# Altium footprint library SWARMUS_LIB.PcbLib: 30 footprints (part 1 of 2)
Each footprint in its own frame and in the unit in brackets; x right, y up, seen from the top. Pads: shape width x height; smd on the part's side, far side on the other; paste and mask are expansions set on the pad; w line width, h text height; cw(c..) or ccw(c..) is an arc to the next point about the centre after c.
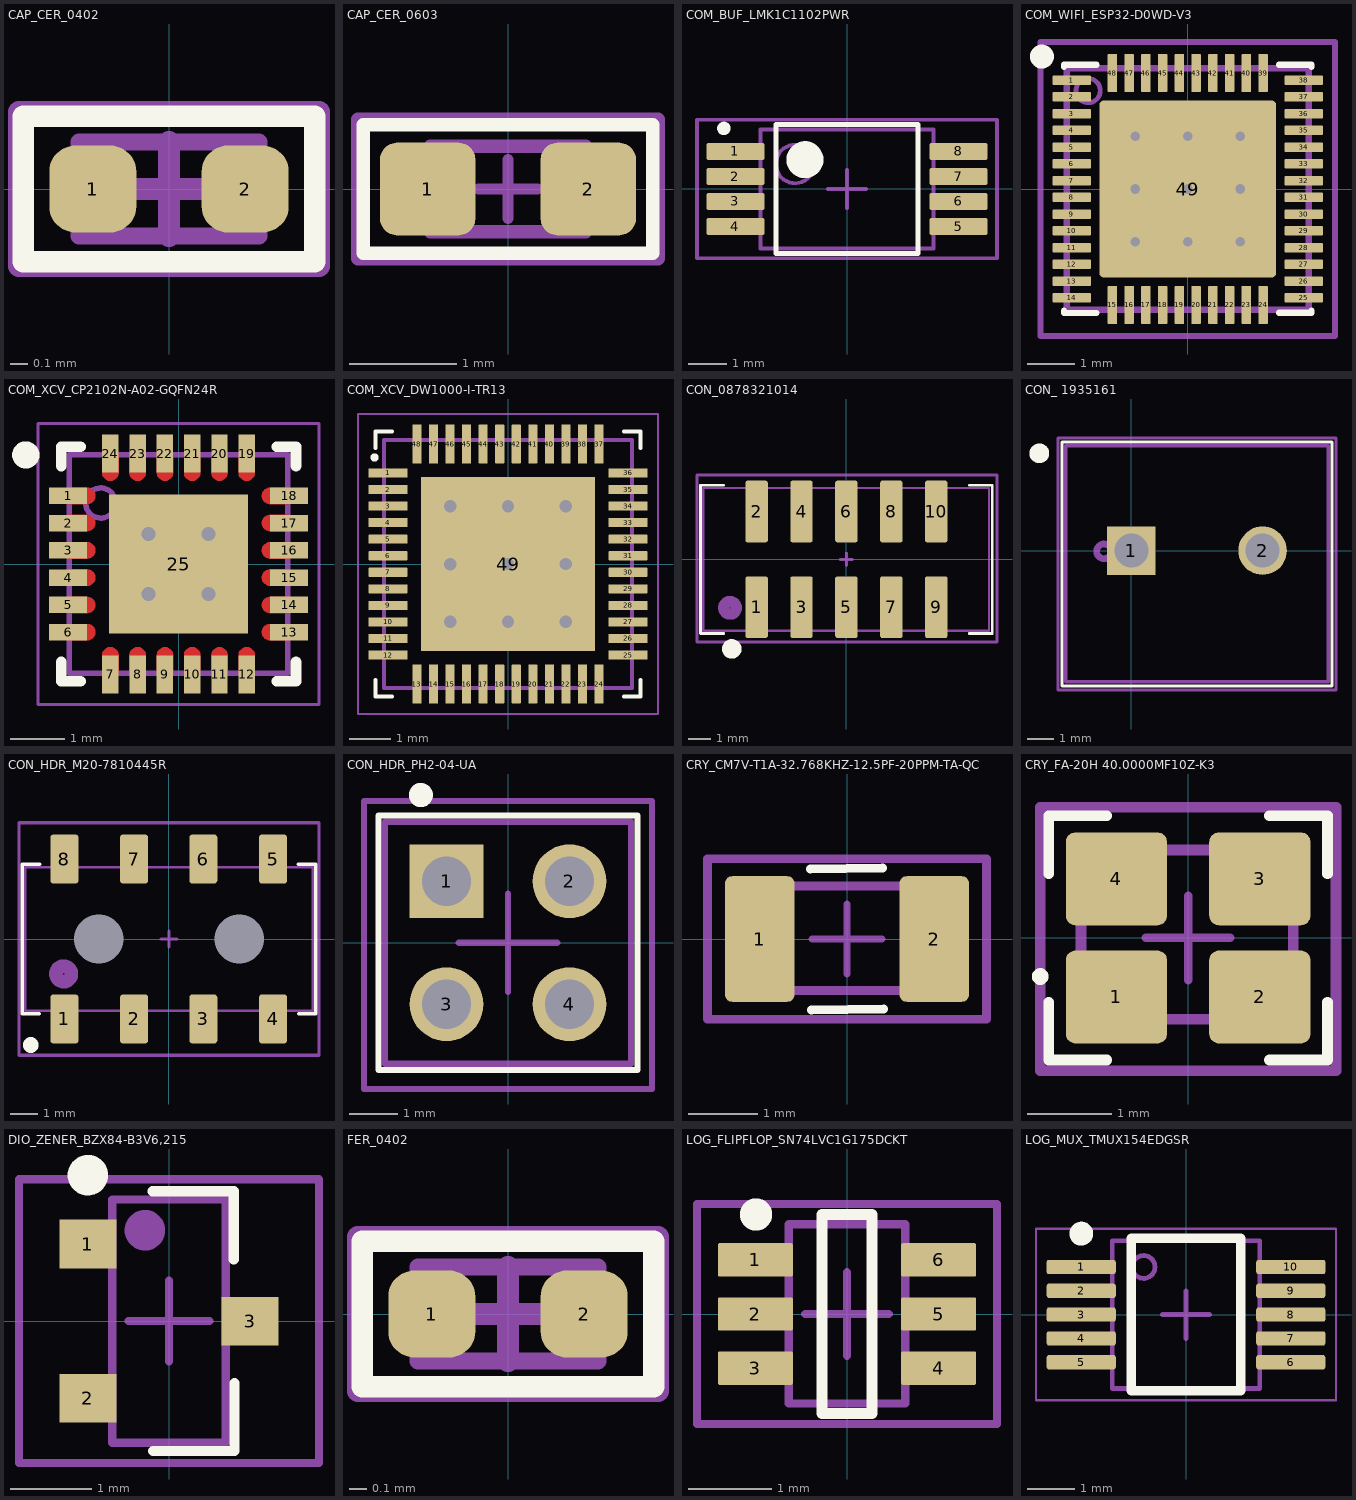
[diagram p0: the footprints below, top view; thin cyan lines are the x and y axes]

## CAP_CER_0402 [mil] "Ceramic Capacitor - 0402"
height 23.62
pads (2):
  rrect60% 20x20 smd paste+0 mask+1.97: 1(-17.5,0) 2(17.5,0)
Top Overlay:
  lines w5: -33.46,-16.73 33.46,-16.73 33.46,16.73 -33.46,16.73 -33.46,-16.73
Top Assembly Drawing:
  lines w3.94: -20.67,-10.83 20.67,-10.83 20.67,10.83 -20.67,10.83 -20.67,-10.83
Top Courtyard:
  lines w5: -10.83,0 10.83,0 ; 0,-10.83 0,10.83 ; -34.45,-17.72 -34.45,17.72 34.45,17.72 34.45,-17.72 -34.45,-17.72
3D body "Cap0402.step": height 19.68, standoff 0, extent -19.37,-9.69 20,10

## CAP_CER_0603 [mil] "Ceramic Capacitor - 0603"
height 31.5
pads (2):
  rrect35% 35x34 smd paste+0 mask+1.97: 1(-29.5,0) 2(29.5,0)
Top Overlay:
  lines w5: -53.15,-23.62 -53.15,23.62 53.15,23.62 53.15,-23.62 -53.15,-23.62
Top Assembly Drawing:
  lines w5: -28.54,-15.75 -28.54,15.75 28.54,15.75 28.54,-15.75 -28.54,-15.75
Top Courtyard:
  lines w3.94: -10.83,0 10.83,0 ; 0,-10.83 0,10.83
  lines w5: -55.12,-25.59 -55.12,25.59 55.12,25.59 55.12,-25.59 -55.12,-25.59
3D body "Cap0603.step": height 35.43, standoff 0, extent -31.5,-15.75 31.5,15.75

## COM_BUF_LMK1C1102PWR [mm] "TSOP, 8-Leads, Body 3,00x4,40mm, Pitch 0,65mm, IPC Medium Density"
height 1.2
pads (8):
  rrect20% 1.5x0.45 smd paste-0.05 mask+0.05: 1(-2.9,0.975) 2(-2.9,0.325) 3(-2.9,-0.325) 4(-2.9,-0.975) 5(2.9,-0.975) 6(2.9,-0.325) 7(2.9,0.325) 8(2.9,0.975)
Top Overlay:
  circle w0.6: c-1.092,0.762 r0.18
  circle w0.25: c-3.2,1.575 r0.05
  lines w0.127: -1.85,-1.676 1.85,-1.676 1.85,1.676 -1.85,1.676 -1.85,-1.676
Top Assembly Drawing:
  circle w0.1: c-1.35,0.65 r0.5
  lines w0.1: -2.25,-1.55 2.25,-1.55 2.25,1.55 -2.25,1.55 -2.25,-1.55
Top Courtyard:
  lines w0.1: -0.5,0 0.5,0 ; 0,-0.5 0,0.5 ; -3.9,-1.8 -3.9,1.8 3.9,1.8 3.9,-1.8 -3.9,-1.8
3D body "COM_BUF_LMK1C1102PWR_1.step": height 1.2, standoff 0, extent -3.2,-1.55 3.2,1.55

## COM_WIFI_ESP32-D0WD-V3 [mm]
pads (49):
  rrect20% 0.8x0.2 smd paste-0.025 mask+0.05: 1(-2.425,2.275) 2(-2.425,1.925) 3(-2.425,1.575) 4(-2.425,1.225) 5(-2.425,0.875) 6(-2.425,0.525) 7(-2.425,0.175) 8(-2.425,-0.175) 9(-2.425,-0.525) 10(-2.425,-0.875) 11(-2.425,-1.225) 12(-2.425,-1.575) 13(-2.425,-1.925) 14(-2.425,-2.275) 25(2.425,-2.275) 26(2.425,-1.925) 27(2.425,-1.575) 28(2.425,-1.225) 29(2.425,-0.875) 30(2.425,-0.525) 31(2.425,-0.175) 32(2.425,0.175) 33(2.425,0.525) 34(2.425,0.875) 35(2.425,1.225) 36(2.425,1.575) 37(2.425,1.925) 38(2.425,2.275)
  rrect20% 0.2x0.8 smd paste-0.025 mask+0.05: 15(-1.575,-2.425) 16(-1.225,-2.425) 17(-0.875,-2.425) 18(-0.525,-2.425) 19(-0.175,-2.425) 20(0.175,-2.425) 21(0.525,-2.425) 22(0.875,-2.425) 23(1.225,-2.425) 24(1.575,-2.425) 39(1.575,2.425) 40(1.225,2.425) 41(0.875,2.425) 42(0.525,2.425) 43(0.175,2.425) 44(-0.175,2.425) 45(-0.525,2.425) 46(-0.875,2.425) 47(-1.225,2.425) 48(-1.575,2.425)
  rrect5% 3.7x3.7 smd paste-3 mask+0.05: 49(0,0)
via -1.1,1.1 diameter 0.5 hole 0.2
via 0,1.1 diameter 0.5 hole 0.2
via 1.1,1.1 diameter 0.5 hole 0.2
via -1.1,0 diameter 0.5 hole 0.2
via 0,0 diameter 0.5 hole 0.2
via 1.1,0 diameter 0.5 hole 0.2
via -1.1,-1.1 diameter 0.5 hole 0.2
via 0,-1.1 diameter 0.5 hole 0.2
via 1.1,-1.1 diameter 0.5 hole 0.2
Top Overlay:
  circle w0.25: c-3.048,2.769 r0.125
  lines w0.127: -2.592,2.547 -2.592,2.597 -1.906,2.597 ; -2.591,-2.54 -2.591,-2.591 -1.905,-2.591 ; 1.904,-2.588 2.59,-2.588 2.59,-2.537 ; 1.904,2.597 2.59,2.597 2.59,2.547
Top Paste:
  rectangle: 0.2,0.2 1.7,1.7
  region: -0.2,0.2 -0.2,1.7 -1.7,1.7 -1.7,0.2
  region: -0.2,-0.2 -1.7,-0.2 -1.7,-1.7 -0.2,-1.7
  region: 0.2,-0.2 0.2,-1.7 1.7,-1.7 1.7,-0.2
  region: 0.225,1.395 1.395,1.395 1.395,0.225 0.225,0.225
  region: -1.398,1.395 -0.225,1.395 -0.225,0.225 -1.398,0.225
  region: -1.395,-0.225 -0.225,-0.225 -0.225,-1.395 -1.395,-1.395
  region: 0.225,-0.225 1.395,-0.225 1.395,-1.397 0.225,-1.397
Top Assembly Drawing:
  circle w0.1: c-2.083,2.057 r0.254
  lines w0.127: -2.525,-2.525 -2.525,2.525 2.525,2.525 2.525,-2.525 -2.525,-2.525
Bottom Designators:
  lines w0.127: -2.53,-2.53 2.53,-2.53 ; -2.53,-2.53 -2.53,2.53 ; -2.53,-2.53 2.53,-2.53 ; -2.53,-2.53 -2.53,2.53 ; -2.53,2.53 2.53,2.53 ; -2.53,2.53 2.53,2.53 ; 2.53,-2.53 2.53,2.53 ; 2.53,-2.53 2.53,2.53
Top Courtyard:
  lines w0.1: -0.5,0 0.5,0 ; 0,-0.5 0,0.5
  lines w0.127: -3.075,-3.075 -3.075,3.075 3.075,3.075 3.075,-3.075 -3.075,-3.075
Bottom Courtyard:
  lines w0.05: -3.1,-3.1 3.1,-3.1 3.1,3.1 -3.1,3.1 -3.1,-3.1
3D body "QFN35P500X500X80_HS-49N.step": height 0.8, standoff 0, extent -2.526,-2.526 2.526,2.526

## COM_XCV_CP2102N-A02-GQFN24R [mm] "QFN, 24-Leads, Body 4.00x4.00mm, Pitch 0.50mm, Thermal Pad 2.55x2.55mm, IPC Medium Density"
height 0.8
pads (25):
  rect 0.7x0.3 smd paste-0.025 mask+0.05: 1(-2.025,1.25) 2(-2.025,0.75) 3(-2.025,0.25) 4(-2.025,-0.25) 5(-2.025,-0.75) 6(-2.025,-1.25) 13(2.025,-1.25) 14(2.025,-0.75) 15(2.025,-0.25) 16(2.025,0.25) 17(2.025,0.75) 18(2.025,1.25)
  rect 0.3x0.7 smd paste-0.025 mask+0.05: 7(-1.25,-2.025) 8(-0.75,-2.025) 9(-0.25,-2.025) 10(0.25,-2.025) 11(0.75,-2.025) 12(1.25,-2.025) 19(1.25,2.025) 20(0.75,2.025) 21(0.25,2.025) 22(-0.25,2.025) 23(-0.75,2.025) 24(-1.25,2.025)
  rect 2.55x2.55 smd paste-0.025 mask+0.05: 25(0,0)
via -0.55,0.55 diameter 0.508 hole 0.254
via 0.55,0.55 diameter 0.508 hole 0.254
via -0.55,-0.55 diameter 0.508 hole 0.254
via 0.55,-0.55 diameter 0.508 hole 0.254
Top Layer:
  region: -1.675,-1.4 -1.66,-1.4 -1.631,-1.394 -1.604,-1.383 -1.579,-1.367 -1.558,-1.346 -1.542,-1.321 -1.531,-1.294 -1.525,-1.265 -1.525,-1.235 -1.531,-1.206 -1.542,-1.179 -1.558,-1.154 -1.579,-1.133 -1.604,-1.117 -1.631,-1.106 -1.66,-1.1 -1.675,-1.1 -2.025,-1.1 -2.025,-1.4
  region: 1.25,2.025
  region: 0.75,2.025
  region: 0.6,1.675 0.6,1.66 0.606,1.631 0.617,1.604 0.633,1.579 0.654,1.558 0.679,1.542 0.706,1.531 0.735,1.525 0.765,1.525 0.794,1.531 0.821,1.542 0.846,1.558 0.867,1.579 0.883,1.604 0.894,1.631 0.9,1.66 0.9,1.675 0.9,2.025 0.6,2.025
  region: 0.25,2.025
  region: 0.1,1.675 0.1,1.66 0.106,1.631 0.117,1.604 0.133,1.579 0.154,1.558 0.179,1.542 0.206,1.531 0.235,1.525 0.265,1.525 0.294,1.531 0.321,1.542 0.346,1.558 0.367,1.579 0.383,1.604 0.394,1.631 0.4,1.66 0.4,1.675 0.4,2.025 0.1,2.025
  region: -0.25,2.025
  region: -0.4,1.675 -0.4,1.66 -0.394,1.631 -0.383,1.604 -0.367,1.579 -0.346,1.558 -0.321,1.542 -0.294,1.531 -0.265,1.525 -0.235,1.525 -0.206,1.531 -0.179,1.542 -0.154,1.558 -0.133,1.579 -0.117,1.604 -0.106,1.631 -0.1,1.66 -0.1,1.675 -0.1,2.025 -0.4,2.025
  region: -0.75,2.025
  region: -0.9,1.675 -0.9,1.66 -0.894,1.631 -0.883,1.604 -0.867,1.579 -0.846,1.558 -0.821,1.542 -0.794,1.531 -0.765,1.525 -0.735,1.525 -0.706,1.531 -0.679,1.542 -0.654,1.558 -0.633,1.579 -0.617,1.604 -0.606,1.631 -0.6,1.66 -0.6,1.675 -0.6,2.025 -0.9,2.025
  region: -1.25,2.025
  region: -1.4,1.675 -1.4,1.66 -1.394,1.631 -1.383,1.604 -1.367,1.579 -1.346,1.558 -1.321,1.542 -1.294,1.531 -1.265,1.525 -1.235,1.525 -1.206,1.531 -1.179,1.542 -1.154,1.558 -1.133,1.579 -1.117,1.604 -1.106,1.631 -1.1,1.66 -1.1,1.675 -1.1,2.025 -1.4,2.025
  region: 1.1,1.675 1.1,1.66 1.106,1.631 1.117,1.604 1.133,1.579 1.154,1.558 1.179,1.542 1.206,1.531 1.235,1.525 1.265,1.525 1.294,1.531 1.321,1.542 1.346,1.558 1.367,1.579 1.383,1.604 1.394,1.631 1.4,1.66 1.4,1.675 1.4,2.025 1.1,2.025
  region: 2.025,-1.25
  region: 2.025,-0.75
  region: 1.675,-0.6 1.66,-0.6 1.631,-0.606 1.604,-0.617 1.579,-0.633 1.558,-0.654 1.542,-0.679 1.531,-0.706 1.525,-0.735 1.525,-0.765 1.531,-0.794 1.542,-0.821 1.558,-0.846 1.579,-0.867 1.604,-0.883 1.631,-0.894 1.66,-0.9 1.675,-0.9 2.025,-0.9 2.025,-0.6
  region: 2.025,-0.25
  region: 1.675,-0.1 1.66,-0.1 1.631,-0.106 1.604,-0.117 1.579,-0.133 1.558,-0.154 1.542,-0.179 1.531,-0.206 1.525,-0.235 1.525,-0.265 1.531,-0.294 1.542,-0.321 1.558,-0.346 1.579,-0.367 1.604,-0.383 1.631,-0.394 1.66,-0.4 1.675,-0.4 2.025,-0.4 2.025,-0.1
  region: 2.025,0.25
  region: 1.675,0.4 1.66,0.4 1.631,0.394 1.604,0.383 1.579,0.367 1.558,0.346 1.542,0.321 1.531,0.294 1.525,0.265 1.525,0.235 1.531,0.206 1.542,0.179 1.558,0.154 1.579,0.133 1.604,0.117 1.631,0.106 1.66,0.1 1.675,0.1 2.025,0.1 2.025,0.4
  region: 2.025,0.75
  region: 1.675,0.9 1.66,0.9 1.631,0.894 1.604,0.883 1.579,0.867 1.558,0.846 1.542,0.821 1.531,0.794 1.525,0.765 1.525,0.735 1.531,0.706 1.542,0.679 1.558,0.654 1.579,0.633 1.604,0.617 1.631,0.606 1.66,0.6 1.675,0.6 2.025,0.6 2.025,0.9
  region: 2.025,1.25
  region: 1.675,1.4 1.66,1.4 1.631,1.394 1.604,1.383 1.579,1.367 1.558,1.346 1.542,1.321 1.531,1.294 1.525,1.265 1.525,1.235 1.531,1.206 1.542,1.179 1.558,1.154 1.579,1.133 1.604,1.117 1.631,1.106 1.66,1.1 1.675,1.1 2.025,1.1 2.025,1.4
  region: 1.675,-1.1 1.66,-1.1 1.631,-1.106 1.604,-1.117 1.579,-1.133 1.558,-1.154 1.542,-1.179 1.531,-1.206 1.525,-1.235 1.525,-1.265 1.531,-1.294 1.542,-1.321 1.558,-1.346 1.579,-1.367 1.604,-1.383 1.631,-1.394 1.66,-1.4 1.675,-1.4 2.025,-1.4 2.025,-1.1
  region: -1.25,-2.025
  region: -0.75,-2.025
  region: -0.6,-1.675 -0.6,-1.66 -0.606,-1.631 -0.617,-1.604 -0.633,-1.579 -0.654,-1.558 -0.679,-1.542 -0.706,-1.531 -0.735,-1.525 -0.765,-1.525 -0.794,-1.531 -0.821,-1.542 -0.846,-1.558 -0.867,-1.579 -0.883,-1.604 -0.894,-1.631 -0.9,-1.66 -0.9,-1.675 -0.9,-2.025 -0.6,-2.025
  region: -0.25,-2.025
  region: -0.1,-1.675 -0.1,-1.66 -0.106,-1.631 -0.117,-1.604 -0.133,-1.579 -0.154,-1.558 -0.179,-1.542 -0.206,-1.531 -0.235,-1.525 -0.265,-1.525 -0.294,-1.531 -0.321,-1.542 -0.346,-1.558 -0.367,-1.579 -0.383,-1.604 -0.394,-1.631 -0.4,-1.66 -0.4,-1.675 -0.4,-2.025 -0.1,-2.025
  region: 0.25,-2.025
  region: 0.4,-1.675 0.4,-1.66 0.394,-1.631 0.383,-1.604 0.367,-1.579 0.346,-1.558 0.321,-1.542 0.294,-1.531 0.265,-1.525 0.235,-1.525 0.206,-1.531 0.179,-1.542 0.154,-1.558 0.133,-1.579 0.117,-1.604 0.106,-1.631 0.1,-1.66 0.1,-1.675 0.1,-2.025 0.4,-2.025
  region: 0.75,-2.025
  region: 0.9,-1.675 0.9,-1.66 0.894,-1.631 0.883,-1.604 0.867,-1.579 0.846,-1.558 0.821,-1.542 0.794,-1.531 0.765,-1.525 0.735,-1.525 0.706,-1.531 0.679,-1.542 0.654,-1.558 0.633,-1.579 0.617,-1.604 0.606,-1.631 0.6,-1.66 0.6,-1.675 0.6,-2.025 0.9,-2.025
  region: 1.25,-2.025
  region: 1.4,-1.675 1.4,-1.66 1.394,-1.631 1.383,-1.604 1.367,-1.579 1.346,-1.558 1.321,-1.542 1.294,-1.531 1.265,-1.525 1.235,-1.525 1.206,-1.531 1.179,-1.542 1.154,-1.558 1.133,-1.579 1.117,-1.604 1.106,-1.631 1.1,-1.66 1.1,-1.675 1.1,-2.025 1.4,-2.025
  region: -1.1,-1.675 -1.1,-1.66 -1.106,-1.631 -1.117,-1.604 -1.133,-1.579 -1.154,-1.558 -1.179,-1.542 -1.206,-1.531 -1.235,-1.525 -1.265,-1.525 -1.294,-1.531 -1.321,-1.542 -1.346,-1.558 -1.367,-1.579 -1.383,-1.604 -1.394,-1.631 -1.4,-1.66 -1.4,-1.675 -1.4,-2.025 -1.1,-2.025
  region: -2.025,1.25
  region: -2.025,0.75
  region: -1.675,0.6 -1.66,0.6 -1.631,0.606 -1.604,0.617 -1.579,0.633 -1.558,0.654 -1.542,0.679 -1.531,0.706 -1.525,0.735 -1.525,0.765 -1.531,0.794 -1.542,0.821 -1.558,0.846 -1.579,0.867 -1.604,0.883 -1.631,0.894 -1.66,0.9 -1.675,0.9 -2.025,0.9 -2.025,0.6
  region: -2.025,0.25
  region: -1.675,0.1 -1.66,0.1 -1.631,0.106 -1.604,0.117 -1.579,0.133 -1.558,0.154 -1.542,0.179 -1.531,0.206 -1.525,0.235 -1.525,0.265 -1.531,0.294 -1.542,0.321 -1.558,0.346 -1.579,0.367 -1.604,0.383 -1.631,0.394 -1.66,0.4 -1.675,0.4 -2.025,0.4 -2.025,0.1
  region: -2.025,-0.25
  region: -1.675,-0.4 -1.66,-0.4 -1.631,-0.394 -1.604,-0.383 -1.579,-0.367 -1.558,-0.346 -1.542,-0.321 -1.531,-0.294 -1.525,-0.265 -1.525,-0.235 -1.531,-0.206 -1.542,-0.179 -1.558,-0.154 -1.579,-0.133 -1.604,-0.117 -1.631,-0.106 -1.66,-0.1 -1.675,-0.1 -2.025,-0.1 -2.025,-0.4
  region: -2.025,-0.75
  region: -1.675,-0.9 -1.66,-0.9 -1.631,-0.894 -1.604,-0.883 -1.579,-0.867 -1.558,-0.846 -1.542,-0.821 -1.531,-0.794 -1.525,-0.765 -1.525,-0.735 -1.531,-0.706 -1.542,-0.679 -1.558,-0.654 -1.579,-0.633 -1.604,-0.617 -1.631,-0.606 -1.66,-0.6 -1.675,-0.6 -2.025,-0.6 -2.025,-0.9
  region: -2.025,-1.25
  region: -1.675,1.1 -1.66,1.1 -1.631,1.106 -1.604,1.117 -1.579,1.133 -1.558,1.154 -1.542,1.179 -1.531,1.206 -1.525,1.235 -1.525,1.265 -1.531,1.294 -1.542,1.321 -1.558,1.346 -1.579,1.367 -1.604,1.383 -1.631,1.394 -1.66,1.4 -1.675,1.4 -2.025,1.4 -2.025,1.1
Top Overlay:
  circle w0.25: c-2.8,2 r0.125
  lines w0.2: -2.15,-1.8 -2.15,-2.15 -1.8,-2.15 ; -2.15,1.8 -2.15,2.15 -1.8,2.15 ; 1.8,-2.15 2.15,-2.15 2.15,-1.8 ; 1.8,2.15 2.15,2.15 2.15,1.8
Top Solder:
  drawing of 24 lines, arcs and shapes, not listed
Top Assembly Drawing:
  circle w0.1: c-1.427,1.118 r0.276
  lines w0.1: -2,-2 -2,2 2,2 2,-2 -2,-2
Top Courtyard:
  lines w0.05: -2.575,-2.575 -2.575,2.575 2.575,2.575 2.575,-2.575 -2.575,-2.575
  lines w0.1: -0.5,0 0.5,0 ; 0,-0.5 0,0.5
3D body: height 0.8, standoff 0, extent -2,-2 2,2

## COM_XCV_DW1000-I-TR13 [mm] "QFN 48 package, 0.5mm pitch"
height 1
pads (49):
  rrect20% 0.95x0.22 smd paste-0.025 mask+0.07: 1(-2.9,2.2) 2(-2.9,1.8) 3(-2.9,1.4) 4(-2.9,1) 5(-2.9,0.6) 6(-2.9,0.2) 7(-2.9,-0.2) 8(-2.9,-0.6) 9(-2.9,-1) 10(-2.9,-1.4) 11(-2.9,-1.8) 12(-2.9,-2.2) 25(2.9,-2.2) 26(2.9,-1.8) 27(2.9,-1.4) 28(2.9,-1) 29(2.9,-0.6) 30(2.9,-0.2) 31(2.9,0.2) 32(2.9,0.6) 33(2.9,1) 34(2.9,1.4) 35(2.9,1.8) 36(2.9,2.2)
  rrect20% 0.22x0.95 smd paste-0.025 mask+0.07: 13(-2.2,-2.9) 14(-1.8,-2.9) 15(-1.4,-2.9) 16(-1,-2.9) 17(-0.6,-2.9) 18(-0.2,-2.9) 19(0.2,-2.9) 20(0.6,-2.9) 21(1,-2.9) 22(1.4,-2.9) 23(1.8,-2.9) 24(2.2,-2.9) 37(2.2,2.9) 38(1.8,2.9) 39(1.4,2.9) 40(1,2.9) 41(0.6,2.9) 42(0.2,2.9) 43(-0.2,2.9) 44(-0.6,2.9) 45(-1,2.9) 46(-1.4,2.9) 47(-1.8,2.9) 48(-2.2,2.9)
  rect 4.2x4.2 smd paste-5 mask+0.07: 49(0,0)
via 1.4,1.4 diameter 0.5 hole 0.3
via 1.4,0 diameter 0.5 hole 0.3
via 1.4,-1.4 diameter 0.5 hole 0.3
via 0,-1.4 diameter 0.5 hole 0.3
via -1.4,-1.4 diameter 0.5 hole 0.3
via -1.4,-0.002 diameter 0.5 hole 0.3
via -1.4,1.4 diameter 0.5 hole 0.3
via 0,1.4 diameter 0.5 hole 0.3
via 0,0 diameter 0.5 hole 0.3
Top Overlay:
  circle w0.1: c-3.225,2.575 r0.05
  lines w0.1: -3.2,-2.8 -3.2,-3.2 -2.8,-3.2 ; -3.2,2.8 -3.2,3.2 -2.8,3.2 ; 2.8,-3.2 3.2,-3.2 3.2,-2.8 ; 2.8,3.2 3.2,3.2 3.2,2.8
Top Paste:
  region: 0.175,-0.175 0.175,-1.925 1.925,-1.925 1.925,-0.175
  region: -0.175,-0.175 -1.925,-0.175 -1.925,-1.925 -0.175,-1.925
  region: -0.175,0.175 -0.175,1.925 -1.925,1.925 -1.925,0.175
  rectangle: 0.175,0.175 1.925,1.925
Top Assembly Drawing:
  circle w0.1: c-2.6,2.2 r0.05
  lines w0.1: -3,-3 -3,3 3,3 3,-3 -3,-3
Top Courtyard:
  lines w0.05: -3.625,-3.625 3.625,-3.625 3.625,3.625 -3.625,3.625 -3.625,-3.625
  lines w0.1: 0,0.2 0,-0.2 0,0 -0.2,0 0.2,0 ; 0.201,0 0.202,-0.002
3D body "DW1000-I-TR13.stp": height 0.9, standoff 0, extent -3.05,-3.05 3.05,3.05

## CON_0878321014 [mm]
pads (10):
  rrect20% 1x2.75 smd: 1(-4,-2.13) 2(-4,2.13) 3(-2,-2.13) 4(-2,2.13) 5(0,-2.13) 6(0,2.13) 7(2,-2.13) 8(2,2.13) 9(4,-2.13) 10(4,2.13)
Top Overlay:
  circle w0.5: c-5.105,-3.988 r0.184
  lines w0.127: -5.467,-3.302 -6.492,-3.302 -6.492,3.302 -5.467,3.302 ; 5.467,-3.302 6.492,-3.302 6.492,3.302 5.467,3.302
Top Assembly Drawing:
  circle w0.5: c-5.182,-2.159 r0.279
  lines w0.1: -6.375,-3.175 6.35,-3.175 6.35,3.175 -6.375,3.175 -6.375,-3.175
Top Courtyard:
  lines w0.127: -0.275,0 0.275,0 ; 0,-0.275 0,0.275 ; -6.655,-3.683 -6.655,3.759 6.706,3.759 6.706,-3.683 -6.655,-3.683
3D body "878321014.stp": height 9.05, standoff 0, extent -6.325,-3.175 6.325,3.175

## CON_ 1935161 [mm]
pads (2):
  rect 1.85x1.85 hole 1.3: 1(0,0)
  round 1.85 hole 1.3: 2(5,0)
Top Overlay:
  circle w0.5: c-3.505,3.708 r0.127
  lines w0.127: -2.642,-5.156 7.645,-5.156 7.645,4.14 -2.642,4.14 -2.642,-5.156
Top Assembly Drawing:
  circle w0.254: c-1.041,-0.025 r0.281
  lines w0.127: -2.5,-5 7.5,-5 7.5,4 -2.5,4 -2.5,-5
Top Courtyard:
  lines w0.127: -2.794,-5.309 7.798,-5.309 7.798,4.293 -2.794,4.293 -2.794,-5.309
3D body "pxc_1935161_04_PT-1-5-2-5-0-H_3D.stp": height 11.4, standoff -3.5, extent -2.5,-5 8.07,4

## CON_HDR_M20-7810445R [mm]
pads (10):
  rrect20% 1.02x1.78 smd paste-0.025 mask+0.07: 1(-3.81,-2.91) 2(-1.27,-2.911) 3(1.248,-2.911) 4(3.788,-2.911) 5(3.788,2.91) 6(1.248,2.91) 7(-1.27,2.91) 8(-3.81,2.91)
  round 1 hole 1.8: ""(-2.554,0) ""(2.554,0)
Top Overlay:
  circle w0.5: c-5.029,-3.861 r0.036
  lines w0.127: -4.73,-2.718 -5.334,-2.718 -5.334,2.718 -4.705,2.718 ; 4.705,2.718 5.334,2.718 5.334,-2.718 4.73,-2.718
Top Assembly Drawing:
  circle w0.5: c-3.835,-1.27 r0.279
  lines w0.1: -5.23,-2.615 -5.23,2.615 5.23,2.615 5.23,-2.615 -5.23,-2.615
Top Courtyard:
  lines w0.127: -0.275,0 0.275,0 ; 0,-0.275 0,0.275 ; -5.461,-4.225 -5.461,4.225 5.461,4.225 5.461,-4.225 -5.461,-4.225
3D body "M20-7810445R_v1 v1.step": height 3.75, standoff -1.4, extent -5.08,-3.625 5.08,3.575

## CON_HDR_PH2-04-UA [mil]
pads (4):
  rect 60x60 hole 40: 1(-50,50)
  round 60 hole 40: 2(50,50) 3(-50,-50) 4(50,-50)
Top Overlay:
  circle w9.84: c-70.87,120.08 r4.92
  lines w5: -105.31,-103.35 -105.31,103.35 105.31,103.35 105.31,-103.35 -105.31,-103.35
Top Assembly Drawing:
  lines w5: -100,-98.43 100,-98.43 100,98.43 -100,98.43 -100,-98.43
Top Courtyard:
  lines w5: -40,0 40,0 ; 0,-40 0,40 ; -117.13,-118.92 117.13,-118.92 117.13,115.16 -117.13,115.16 -117.13,-118.92
3D body "PH2-04-UA.STEP": height 334.65, standoff -120.08, extent -100,-98.43 100,98.43

## CRY_CM7V-T1A-32.768KHZ-12.5PF-20PPM-TA-QC [mm] "CRY - 32.768KHZ tol:20ppm 12.5PF - 2-SMD"
height 0.65
pads (2):
  rrect20% 1x1.8 smd paste-0.025 mask+0.07: 1(-1.25,0) 2(1.25,0)
Top Overlay:
  lines w0.127: -0.527,1.005 0.508,1.016 ; -0.508,-1.016 0.527,-1.005
Top Assembly Drawing:
  lines w0.127: -1.6,0.762 1.6,0.762 1.6,-0.738 ; -1.6,0.763 -1.6,-0.737 1.6,-0.737
Top Assembly:
  lines w0.1: -1.65,-0.8 -1.65,0.8 ; 1.65,-0.8 1.65,0.8
Top Courtyard:
  lines w0.1: -0.5,0 0.5,0 ; 0,-0.5 0,0.5
  lines w0.127: -2,-1.15 2,-1.15 2,1.15 -2,1.15 -2,-1.15 ; -2,-1.15 -2,-1.15
3D body: height 0.65, standoff 0, extent -0.6,-0.8 0.6,0.8
3D body: height 0.65, standoff 0, extent -1.65,-0.8 -0.6,0.8
3D body: height 0.65, standoff 0, extent 0.6,-0.8 1.65,0.8

## CRY_FA-20H 40.0000MF10Z-K3 [mm] "CRY - 40MKHZ 10ppm 10PF - 4-SMD"
height 0.55
pads (4):
  rrect20% 1.2x1.1 smd paste-0.025 mask+0.07: 1(-0.85,-0.7) 2(0.85,-0.7) 3(0.85,0.7) 4(-0.85,0.7)
Top Overlay:
  circle w0.1: c-1.753,-0.457 r0.05
  lines w0.127: -1.651,-0.762 -1.651,-1.448 -0.965,-1.448 ; -1.651,0.762 -1.651,1.448 -0.965,1.448 ; 0.965,-1.448 1.651,-1.448 1.651,-0.762 ; 0.965,1.448 1.651,1.448 1.651,0.762
Top Assembly Drawing:
  circle w0.254: c-0.85,-0.457 r0.036
  lines w0.127: -1.27,1.035 -1.27,-0.965 1.23,-0.965 ; -1.255,1.041 1.245,1.041 1.245,-0.959
Top Courtyard:
  lines w0.1: -0.5,0 0.5,0 ; 0,-0.5 0,0.5
  lines w0.127: -1.753,-1.575 -1.753,1.549 1.753,1.549 1.753,-1.575 -1.753,-1.575
3D body: height 0.55, standoff 0.05, extent -1.3,-1.05 1.3,1.05

## DIO_ZENER_BZX84-B3V6,215 [mm]
height 1.1
pads (3):
  rect 0.7x0.6 smd paste-0.025 mask+0.07: 1(-1,0.95) 2(-1,-0.95) 3(1,0)
Top Overlay:
  circle w0.25: c-1,1.8 r0.125
  lines w0.127: -0.2,1.6 0.8,1.6 0.8,0.764 ; -0.193,-1.602 0.807,-1.602 0.807,-0.765
Top Assembly Drawing:
  circle w0.25: c-0.297,1.12 r0.125
  lines w0.1: -0.7,-1.5 0.7,-1.5 0.7,1.5 -0.7,1.5 -0.7,-1.5
Top Courtyard:
  lines w0.1: -0.5,0 0.5,0 ; 0,-0.5 0,0.5 ; -1.85,-1.75 1.85,-1.75 1.85,1.75 -1.85,1.75 -1.85,-1.75
3D body "SOT95P230X110-3N.step": height 1.1, standoff 0, extent -1.3,-1.5 1.3,1.5

## FER_0402 [mil] "Ferrite - 0402"
height 23.62
pads (2):
  rrect60% 20x20 smd paste+0 mask+1.97: 1(-17.5,0) 2(17.5,0)
Top Overlay:
  lines w5: -33.46,-16.73 -33.46,16.73 33.46,16.73 33.46,-16.73 -33.46,-16.73
Top Assembly Drawing:
  lines w3.94: -20.67,-10.83 -20.67,10.83 20.67,10.83 20.67,-10.83 -20.67,-10.83
Top Courtyard:
  lines w5: -10.83,0 10.83,0 ; 0,-10.83 0,10.83 ; -34.45,-17.72 34.45,-17.72 34.45,17.72 -34.45,17.72 -34.45,-17.72
3D body "44278.stp": height 19.29, standoff -0.39, extent -19.69,-9.84 19.68,9.84

## LOG_FLIPFLOP_SN74LVC1G175DCKT [mm] "SOT23, 6-Leads, Body 2.00x2.10mm, Pitch 0.65mm, IPC Medium Density"
height 1.1
pads (6):
  rrect10% 0.9x0.4 smd paste-0.025 mask+0.05: 1(-1.1,0.65) 2(-1.1,0) 3(-1.1,-0.65) 4(1.1,-0.65) 5(1.1,0) 6(1.1,0.65)
Top Overlay:
  circle w0.25: c-1.092,1.194 r0.068
  lines w0.127: -0.3,-1.194 -0.3,1.194 0.3,1.194 0.3,-1.194 -0.3,-1.194
Top Assembly Drawing:
  lines w0.1: -0.7,-1.075 0.7,-1.075 0.7,1.075 -0.7,1.075 -0.7,-1.075
Top Courtyard:
  lines w0.1: -0.5,0 0.5,0 ; 0,-0.5 0,0.5 ; -1.8,-1.321 1.8,-1.321 1.8,1.321 -1.8,1.321 -1.8,-1.321
3D body "SOT65P210X110-6N.step": height 1.1, standoff 0, extent -1.2,-1.075 1.2,1.075

## LOG_MUX_TMUX154EDGSR [mm] "TSSOP, 10-Leads, Body 3.00x3.00mm, Pitch 0.50mm, IPC Medium Density"
height 1.1
pads (10):
  rrect30% 1.45x0.3 smd paste-0.025 mask+0.05: 1(-2.2,1) 2(-2.2,0.5) 3(-2.2,0) 4(-2.2,-0.5) 5(-2.2,-1) 6(2.2,-1) 7(2.2,-0.5) 8(2.2,0) 9(2.2,0.5) 10(2.2,1)
Top Overlay:
  circle w0.25: c-2.2,1.7 r0.125
  lines w0.2: -1.15,-1.6 -1.15,1.6 1.15,1.6 1.15,-1.6 -1.15,-1.6
Bottom Assembly Drawing:
  circle w0.1: c-0.89,1 r0.24
  lines w0.1: -1.55,-1.55 1.55,-1.55 1.55,1.55 -1.55,1.55 -1.55,-1.55
Top Courtyard:
  lines w0.05: -3.15,-1.8 -3.15,1.8 3.15,1.8 3.15,-1.8 -3.15,-1.8
  lines w0.1: -0.5,0 0.5,0 ; 0,-0.5 0,0.5
3D body "TSSOP50P490X110-10N.step": height 1.1, standoff 0, extent -2.45,-1.55 2.45,1.55